# Altium footprint library PCB - CRYSTALS - ABRACON AX3.PCBLIB: 1 footprints
Each footprint in its own frame and in the unit in brackets; x right, y up, seen from the top. Pads: shape width x height; smd on the part's side, far side on the other; paste and mask are expansions set on the pad; w line width, h text height; cw(c..) or ccw(c..) is an arc to the next point about the centre after c.
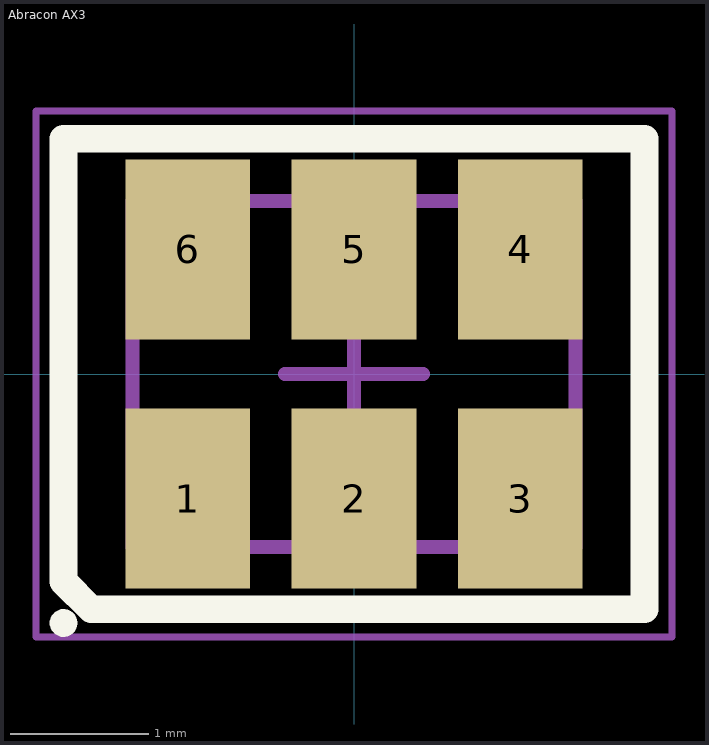
[diagram p0: the footprint, top view; thin cyan lines are the x and y axes]

## Abracon AX3 [mm] "Crystal, 6-Leads, Body 2.50x3.20mm, Pitch 1.0mm, IPC Medium Density"
height 1
pads (6):
  rect 0.9x1.3 smd: 1(-1.2,-0.9) 2(0,-0.9) 3(1.2,-0.9) 4(1.2,0.9) 5(0,0.9) 6(-1.2,0.9)
Top Overlay:
  circle w0.1: c-2.1,-1.8 r0.05
  lines w0.2: -2.1,-1.5 -1.9,-1.7 2.1,-1.7 2.1,1.7 -2.1,1.7 -2.1,-1.5
Mechanical 13:
  lines w0.1: -1.6,-1.25 1.6,-1.25 1.6,1.25 -1.6,1.25 -1.6,-1.25
Mechanical 15:
  lines w0.05: -2.3,-1.9 2.3,-1.9 2.3,1.9 -2.3,1.9 -2.3,-1.9
Mechanical 2 (Mech9):
  lines w0.1: -0.5,0 0.5,0 ; 0,-0.5 0,0.5
3D body "AX3.STEP": height 1, standoff 0, extent -1.6,-1.25 1.6,1.25